# Altium footprint library PCB库a.PcbLib: 34 footprints (part 3 of 3)
Each footprint in its own frame and in the unit in brackets; x right, y up, seen from the top. Pads: shape width x height; smd on the part's side, far side on the other; paste and mask are expansions set on the pad; w line width, h text height; cw(c..) or ccw(c..) is an arc to the next point about the centre after c.
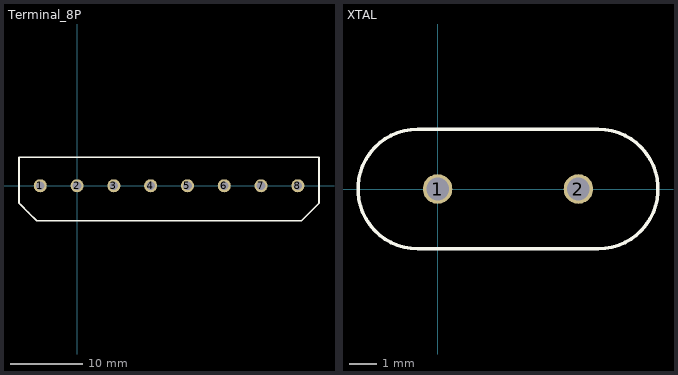
[diagram p2: the footprints below, top view; thin cyan lines are the x and y axes]

## Terminal_8P [mm]
pads (8):
  round 1.8 hole 1.2: 1(-5.08,0) 2(0,0) 3(5.08,0) 4(10.16,0) 5(15.24,0) 6(20.32,0) 7(25.4,0) 8(30.48,0)
Top Overlay:
  lines w0.254: -8.016,-2.398 -8.001,-2.159 -8.001,3.937 -7.826,3.937 33.401,3.937 33.401,1.524 33.401,-2.413 30.988,-4.826 -5.588,-4.826 -6.707,-3.707 -7.771,-2.643 -8.016,-2.398

## XTAL [mil]
pads (2):
  round 42 / inner round 68 / far side round 68 hole 32: 1(0,0) 2(200,0)
Top Overlay:
  lines w5: -28,-85.01 cw(c-28,0) -28,85.01 228,85.01 cw(c228,0) 228,-85.01 -28,-85.01